# EAGLE library part ADM3222 (library analog-devices)
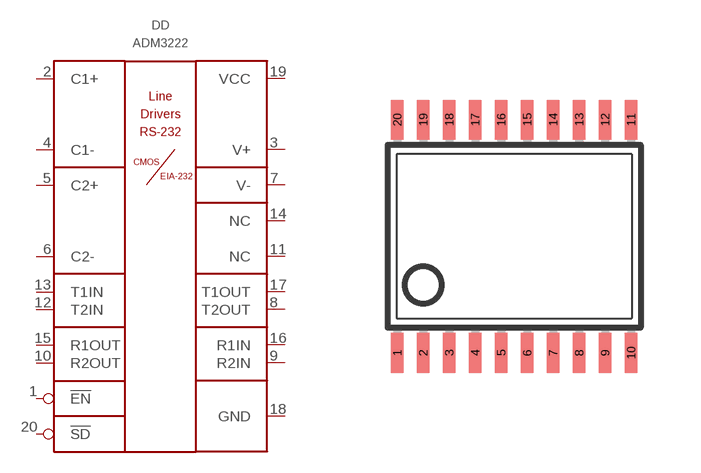
[diagram p29: symbol with the pads of TSSOP20; footprint TSSOP20]

Designator prefix DD

## ADM3222ARU  [TSSOP20]
1  !EN  in
2  C1+  pas
3  V+  pwr
4  C1-  pas
5  C2+  pas
6  C2-  pas
7  V-  pwr
8  T2OUT  out
9  R2IN  in
10  R2OUT  out
11  NC  nc
12  T2IN  in
13  T1IN  in
14  NC  nc
15  R1OUT  out
16  R1IN  in
17  T1OUT  out
18  GND  pwr
19  VCC  pwr
20  !SD  in

## Footprint TSSOP20 (pad centres in mm)
Thin Shrink Small Outline Plastic 20 MAX3223-MAX3243.pdf
smd 0.305 x 0.991: 1 -2.925,-2.918; 2 -2.275,-2.918; 3 -1.625,-2.918; 4 -0.975,-2.918; 5 -0.325,-2.918; 6 0.325,-2.918; 7 0.975,-2.918; 8 1.625,-2.918; 9 2.275,-2.918; 10 2.925,-2.918; 11 2.925,2.918; 12 2.275,2.918; 13 1.625,2.918; 14 0.975,2.918; 15 0.325,2.918; 16 -0.325,2.918; 17 -0.975,2.918; 18 -1.625,2.918; 19 -2.275,2.918; 20 -2.925,2.918